# Altium footprint library Конденсаторы-mm.PcbLib: 129 footprints (part 6 of 9)
Each footprint in its own frame and in the unit in brackets; x right, y up, seen from the top. Pads: shape width x height; smd on the part's side, far side on the other; paste and mask are expansions set on the pad; w line width, h text height; cw(c..) or ccw(c..) is an arc to the next point about the centre after c.
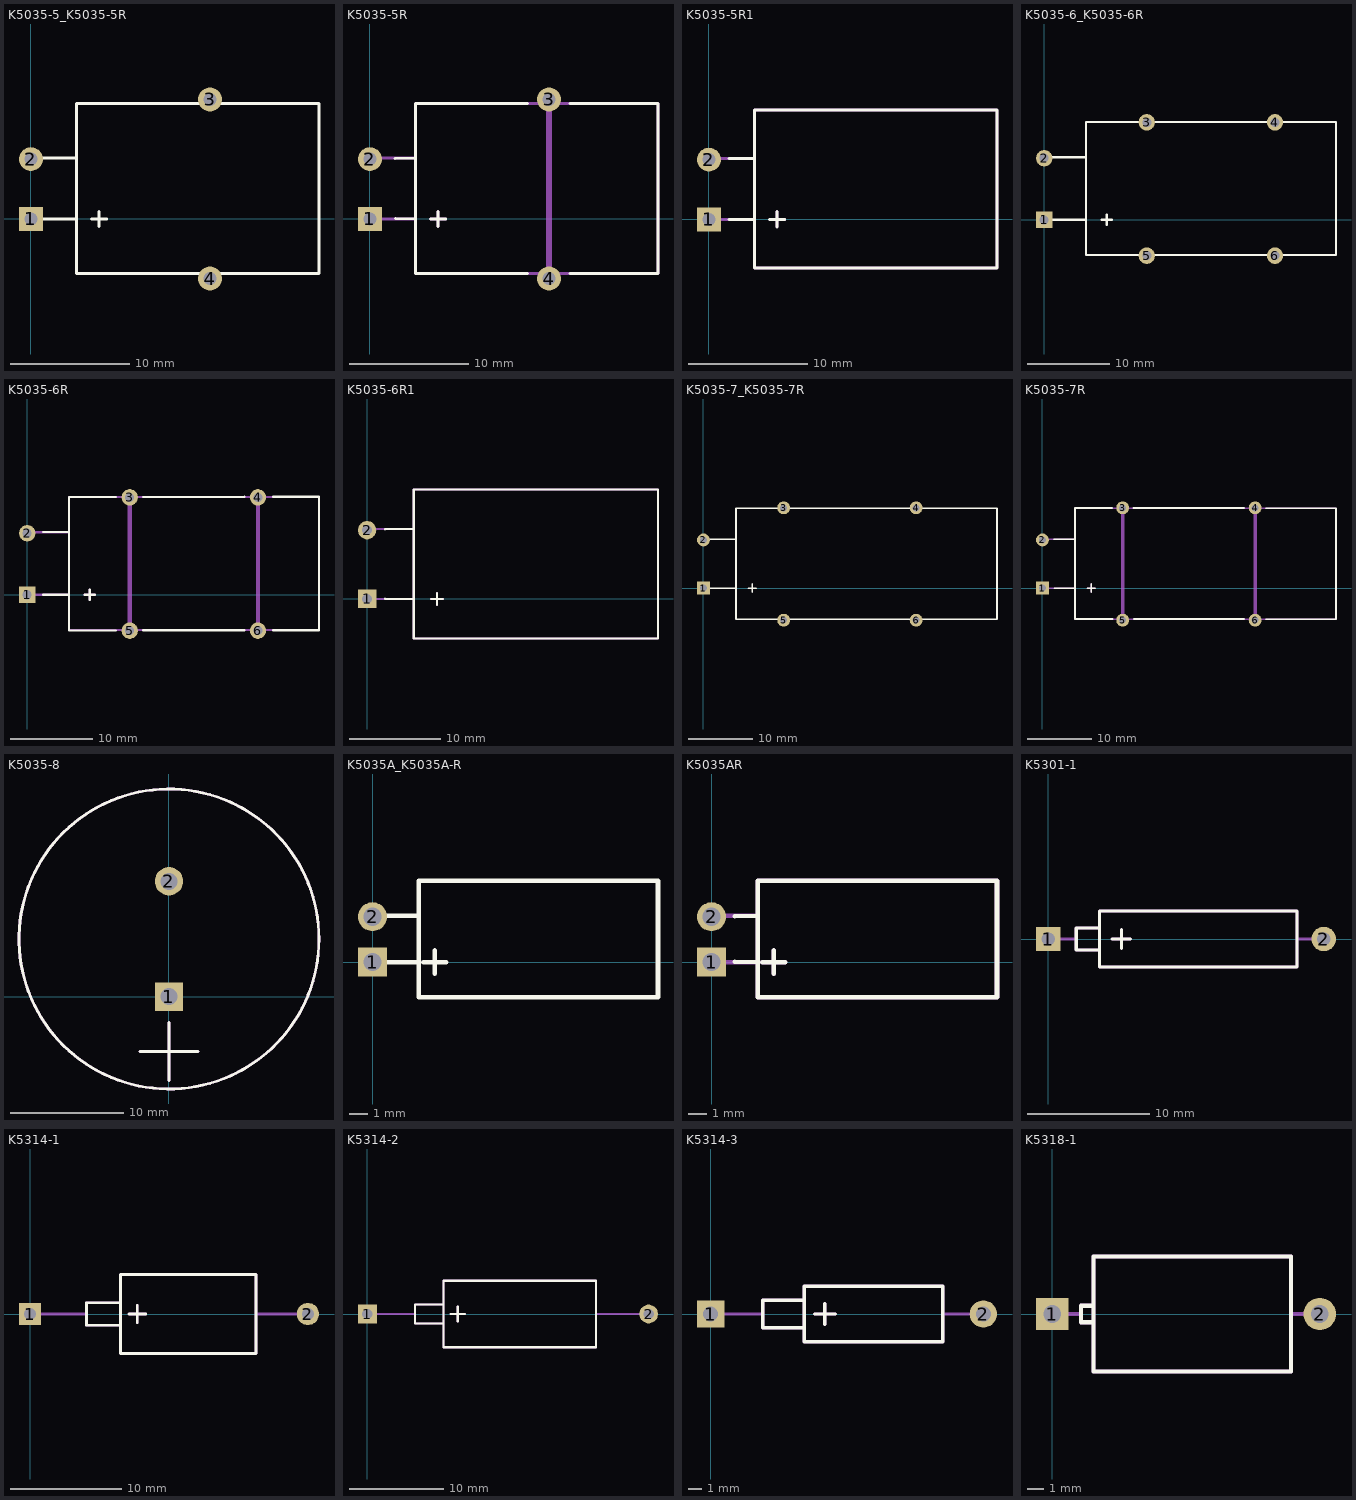
[diagram p5: the footprints below, top view; thin cyan lines are the x and y axes]

## K5035-5_K5035-5R [mm]
pads (4):
  rect 2x2 hole 1.1: 1(0,0)
  round 2 hole 1.1: 2(0,5) 3(15,10) 4(15,-5)
Top Overlay:
  lines w0.25: 0,0 3.81,0 ; 0,5.08 3.81,5.08 ; 5.08,0 6.35,0 ; 5.715,-0.635 5.715,0.635 ; 3.81,-4.572 24.13,-4.572 24.13,9.652 3.81,9.652 3.81,-4.572

## K5035-5R [mm]
pads (4):
  rect 2x2 hole 1.1: 1(0,0)
  round 2 hole 1.1: 2(0,5) 3(15,10) 4(15,-5)
Top Overlay:
  lines w0.25: 2.105,5.07 3.81,5.08 ; 2.16,0.01 3.81,0 ; 3.81,-4.572 3.81,9.652 ; 3.82,-4.575 13.215,-4.575 ; 3.82,9.655 13.215,9.655 ; 5.08,0 6.35,0 ; 5.715,-0.635 5.715,0.635 ; 16.77,-4.575 24.125,-4.575 ; 16.77,9.655 24.125,9.655 ; 24.13,-4.572 24.13,9.652
Mechanical 1:
  lines w0.25: 0,0 3.81,0 ; 0,5.08 3.81,5.08 ; 5.08,0 6.35,0 ; 5.715,-0.635 5.715,0.635 ; 3.81,-4.572 24.13,-4.572 24.13,9.652 3.81,9.652 3.81,-4.572
  lines w0.5: 14.98,-4.955 15.005,-4.955 15.005,9.985

## K5035-5R1 [mm]
pads (2):
  rect 2x2 hole 1.1: 1(0,0)
  round 2 hole 1.1: 2(0,5)
Top Overlay:
  lines w0.25: 1.685,0 3.81,0 ; 1.7,5.08 3.81,5.08 ; 5.08,0 6.35,0 ; 5.715,-0.635 5.715,0.635 ; 3.81,-4.064 24.13,-4.064 24.13,9.144 3.81,9.144 3.81,-4.064
Mechanical 1:
  lines w0.25: 0,0 3.81,0 ; 0,5.08 3.81,5.08 ; 5.08,0 6.35,0 ; 5.715,-0.635 5.715,0.635 ; 3.81,-4.064 24.13,-4.064 24.13,9.144 3.81,9.144 3.81,-4.064

## K5035-6_K5035-6R [mm]
pads (6):
  rect 2x2 hole 1.1: 1(0,0)
  round 2 hole 1.1: 2(0,7.5) 3(12.5,11.875) 4(28.125,11.875) 5(12.5,-4.375) 6(28.125,-4.375)
Top Overlay:
  lines w0.25: 0,0 5.08,0 ; 0,7.62 5.08,7.62 ; 6.985,0 8.255,0 ; 7.62,-0.635 7.62,0.635 ; 5.08,-4.318 35.56,-4.318 35.56,11.938 5.08,11.938 5.08,-4.318

## K5035-6R [mm]
pads (6):
  rect 2x2 hole 1.1: 1(0,0)
  round 2 hole 1.1: 2(0,7.5) 3(12.5,11.875) 4(28.125,11.875) 5(12.5,-4.375) 6(28.125,-4.375)
Top Overlay:
  lines w0.25: 1.9,0 5.05,0 ; 1.9,7.625 5.075,7.625 ; 7,0 8.275,0 8.275,-0.025 ; 7.625,0.65 7.625,-0.625 7.65,-0.625 ; 10.85,-4.35 5.075,-4.35 5.075,-4.3 5.075,0.325 5.075,9.9 5.075,11.925 10.85,11.925 ; 14.125,-4.325 26.475,-4.325 ; 14.15,11.925 26.5,11.925 26.5,11.95 ; 30,-4.325 35.575,-4.325 35.575,-4.25 35.575,11.95 30.95,11.95 30,11.95 30,11.925
Mechanical 1:
  lines w0.25: 0,0 5.08,0 ; 0,7.62 5.08,7.62 ; 6.985,0 8.255,0 ; 7.62,-0.635 7.62,0.635 ; 5.08,-4.318 35.56,-4.318 35.56,11.938 5.08,11.938 5.08,-4.318
  lines w0.5: 12.5,-4.375 12.5,12 ; 28.125,-4.375 28.125,12

## K5035-6R1 [mm]
pads (2):
  rect 2x2 hole 1.1: 1(0,0)
  round 2 hole 1.1: 2(0,7.5)
Top Overlay:
  lines w0.25: 1.94,0.005 5.08,0 ; 1.94,7.605 5.08,7.62 ; 6.985,0 8.255,0 ; 7.62,-0.635 7.62,0.635 ; 5.08,-4.318 31.75,-4.318 31.75,11.938 5.08,11.938 5.08,-4.318
Mechanical 1:
  lines w0.25: 0,0 5.08,0 ; 0,7.62 5.08,7.62 ; 6.985,0 8.255,0 ; 7.62,-0.635 7.62,0.635 ; 5.08,-4.318 31.75,-4.318 31.75,11.938 5.08,11.938 5.08,-4.318

## K5035-7_K5035-7R [mm]
pads (6):
  rect 2x2 hole 1.1: 1(0,0)
  round 2 hole 1.1: 2(0,7.5) 3(12.5,12.5) 4(33.125,12.5) 5(12.5,-5) 6(33.125,-5)
Top Overlay:
  lines w0.25: 0,0 5.08,0 ; 0,7.62 5.08,7.62 ; 6.985,0 8.255,0 ; 7.62,-0.635 7.62,0.635 ; 5.08,-4.826 45.72,-4.826 45.72,12.446 5.08,12.446 5.08,-4.826

## K5035-7R [mm]
pads (6):
  rect 2x2 hole 1.1: 1(0,0)
  round 2 hole 1.1: 2(0,7.5) 3(12.5,12.5) 4(33.125,12.5) 5(12.5,-5) 6(33.125,-5)
Top Overlay:
  lines w0.25: 1.81,7.615 5.08,7.62 ; 1.86,-0.01 5.08,0 ; 5.035,12.465 10.885,12.465 ; 5.06,-4.81 10.91,-4.81 10.91,-4.835 ; 5.08,-4.826 5.08,12.446 ; 6.985,0 8.255,0 ; 7.62,-0.635 7.62,0.635 ; 14.185,12.465 31.41,12.465 ; 14.21,-4.81 31.435,-4.81 ; 34.785,12.44 45.685,12.44 ; 34.81,-4.835 45.71,-4.835 45.71,-4.81 ; 45.72,-4.826 45.72,12.446
Mechanical 1:
  lines w0.25: 0,0 5.08,0 ; 0,7.62 5.08,7.62 ; 6.985,0 8.255,0 ; 7.62,-0.635 7.62,0.635 ; 5.08,-4.826 45.72,-4.826 45.72,12.446 5.08,12.446 5.08,-4.826
  lines w0.5: 12.51,-4.91 12.51,12.565 ; 33.11,-4.935 33.135,-4.935 33.135,12.565

## K5035-8 [mm]
pads (2):
  rect 2.5x2.5 hole 1.5: 1(0,0)
  round 2.5 hole 1.5: 2(0,10.16)
Top Overlay:
  circle w0.25: c0,5.08 r13.208
  lines w0.25: -2.54,-4.826 2.54,-4.826 ; 0,-7.366 0,-2.286
Mechanical 1:
  circle w0.25: c0,5.08 r13.208
  lines w0.25: -2.54,-4.826 2.54,-4.826 ; 0,-7.366 0,-2.286

## K5035A_K5035A-R [mm]
pads (2):
  rect 1.6x1.6 hole 1: 1(0,0)
  round 1.6 hole 1: 2(0,2.5)
Top Overlay:
  lines w0.25: 0,0 2.54,0 ; 0,2.54 2.54,2.54 ; 2.794,0 4.064,0 ; 3.429,-0.635 3.429,0.635 ; 2.54,-1.93 15.748,-1.93 15.748,4.47 2.54,4.47 2.54,-1.93

## K5035AR [mm]
pads (2):
  rect 1.6x1.6 hole 1: 1(0,0)
  round 1.6 hole 1: 2(0,2.5)
Top Overlay:
  lines w0.25: 1.275,2.535 2.54,2.54 ; 1.285,0.005 2.54,0 ; 2.794,0 4.064,0 ; 3.429,-0.635 3.429,0.635 ; 2.54,-1.93 15.748,-1.93 15.748,4.47 2.54,4.47 2.54,-1.93
Mechanical 1:
  lines w0.25: 0,0 2.54,0 ; 0,2.54 2.54,2.54 ; 2.794,0 4.064,0 ; 3.429,-0.635 3.429,0.635 ; 2.54,-1.93 15.748,-1.93 15.748,4.47 2.54,4.47 2.54,-1.93

## K5301-1 [mm]
pads (2):
  rect 2x2 hole 1.1: 1(0,0)
  round 2 hole 1.1: 2(22.5,0)
Top Overlay:
  lines w0.25: 4.191,-0.889 2.286,-0.889 2.286,0.889 4.191,0.889 ; 5.207,0 6.731,0 ; 5.969,-0.762 5.969,0.762 ; 4.191,-2.286 20.32,-2.286 20.32,2.286 4.191,2.286 4.191,-2.286
Mechanical 1:
  lines w0.25: 0,0 2.286,0 ; 4.191,-0.889 2.286,-0.889 2.286,0.889 4.191,0.889 ; 5.207,0 6.731,0 ; 5.969,-0.762 5.969,0.762 ; 20.32,0 22.05,0 ; 4.191,-2.286 20.32,-2.286 20.32,2.286 4.191,2.286 4.191,-2.286

## K5314-1 [mm]
pads (2):
  rect 2x2 hole 1.1: 1(0,0)
  round 2 hole 1.1: 2(25,0)
Top Overlay:
  lines w0.25: 8.128,-1.016 5.08,-1.016 5.08,1.016 8.128,1.016 ; 8.89,0 10.414,0 ; 9.652,-0.762 9.652,0.762 ; 8.128,-3.556 20.32,-3.556 20.32,3.556 8.128,3.556 8.128,-3.556
Mechanical 1:
  lines w0.25: 0,0 5.08,0 ; 8.128,-1.016 5.08,-1.016 5.08,1.016 8.128,1.016 ; 8.89,0 10.414,0 ; 9.652,-0.762 9.652,0.762 ; 20.32,0 24.73,0 ; 8.128,-3.556 20.32,-3.556 20.32,3.556 8.128,3.556 8.128,-3.556

## K5314-2 [mm]
pads (2):
  rect 2x2 hole 1.1: 1(0,0)
  round 2 hole 1.1: 2(30,0)
Top Overlay:
  lines w0.25: 8.128,-1.016 5.08,-1.016 5.08,1.016 8.128,1.016 ; 8.89,0 10.414,0 ; 9.652,-0.762 9.652,0.762 ; 8.128,-3.556 24.384,-3.556 24.384,3.556 8.128,3.556 8.128,-3.556
Mechanical 1:
  lines w0.25: 0,0 5.08,0 ; 8.128,-1.016 5.08,-1.016 5.08,1.016 8.128,1.016 ; 8.89,0 10.414,0 ; 9.652,-0.762 9.652,0.762 ; 24.384,0 29.5,0 ; 8.128,-3.556 24.384,-3.556 24.384,3.556 8.128,3.556 8.128,-3.556

## K5314-3 [mm]
pads (2):
  rect 2x2 hole 1.1: 1(0,0)
  round 2 hole 1.1: 2(20,0)
Top Overlay:
  lines w0.25: 6.858,-1.016 3.81,-1.016 3.81,1.016 6.858,1.016 ; 7.62,0 9.144,0 ; 8.382,-0.762 8.382,0.762 ; 6.858,-2.032 17.018,-2.032 17.018,2.032 6.858,2.032 6.858,-2.032
Mechanical 1:
  lines w0.25: 0,0 3.81,0 ; 6.858,-1.016 3.81,-1.016 3.81,1.016 6.858,1.016 ; 7.62,0 9.144,0 ; 8.382,-0.762 8.382,0.762 ; 17.018,0 19.75,0 ; 6.858,-2.032 17.018,-2.032 17.018,2.032 6.858,2.032 6.858,-2.032

## K5318-1 [mm]
pads (2):
  rect 2x2 hole 1.1: 1(0,0)
  round 2 hole 1.1: 2(16.5,0)
Top Overlay:
  lines w0.25: 2.54,-0.508 1.778,-0.508 1.778,0.508 2.54,0.508 ; 2.54,-3.556 14.732,-3.556 14.732,3.556 4.572,3.556 2.54,3.556 2.54,-3.556
Mechanical 1:
  lines w0.25: 0,0 1.778,0 ; 2.54,-0.508 1.778,-0.508 1.778,0.508 2.54,0.508 ; 14.732,0 16.51,0 ; 2.54,-3.556 14.732,-3.556 14.732,3.556 4.572,3.556 2.54,3.556 2.54,-3.556